# Altium schematic symbol library Schlib.SchLib: 43 symbols
Pins are listed as number, name and electrical type; pins without a type are passive.

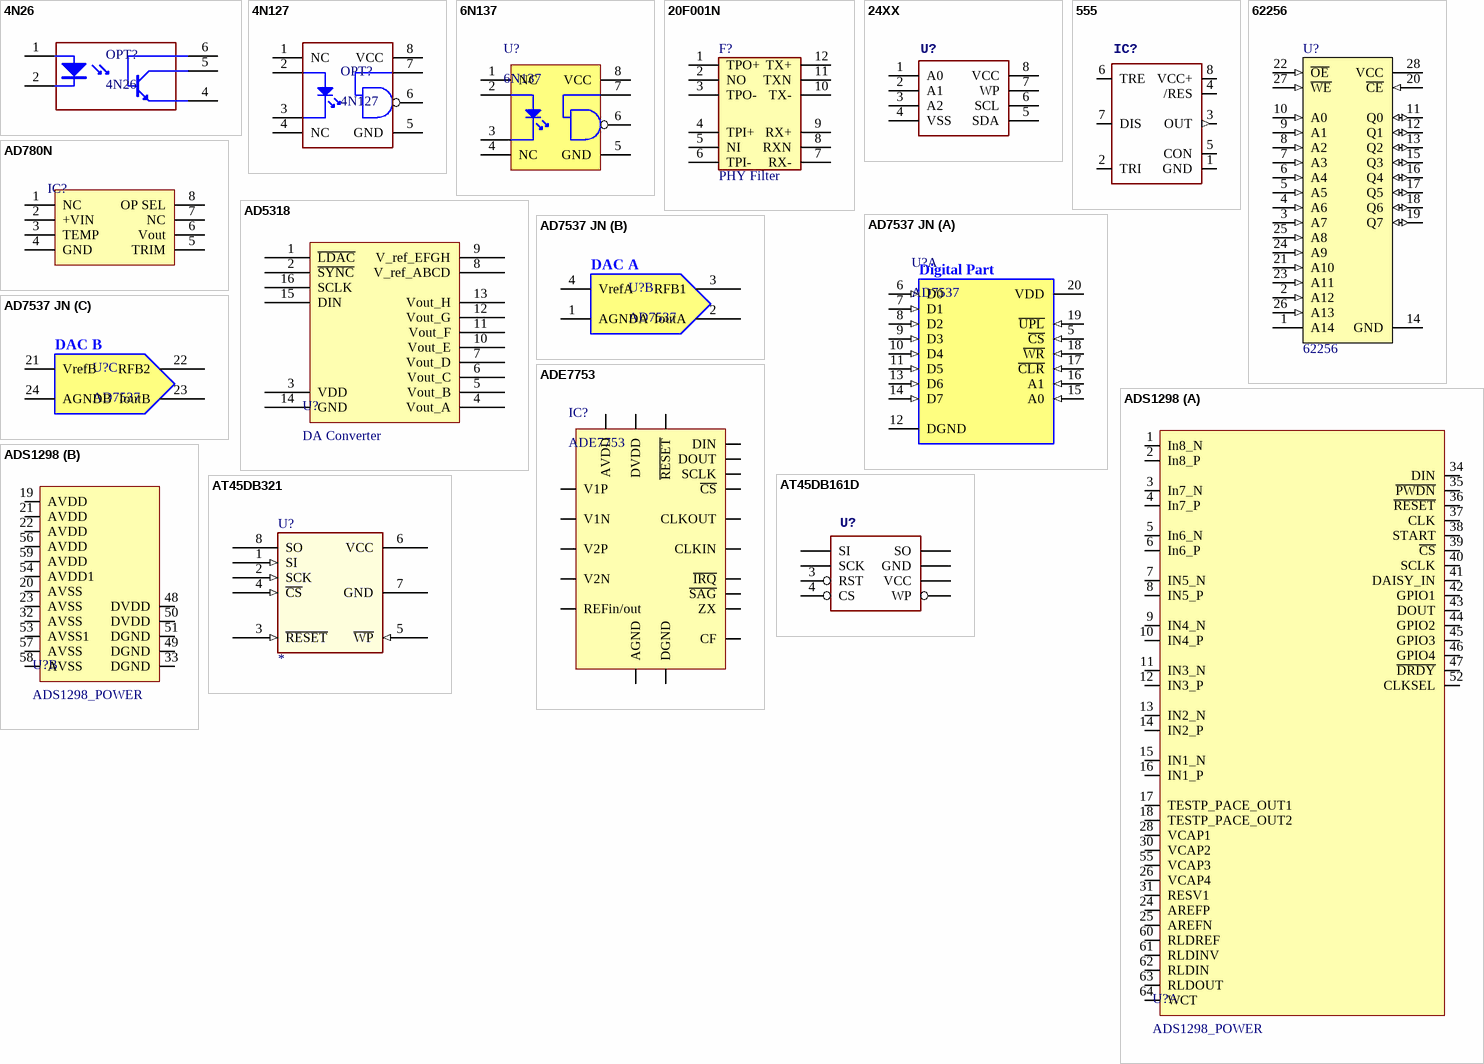
[diagram p0: symbols 4N26 to AT45DB321]

## 4N26
designator OPT?
footprint _DIP06-KIT
footprint _DIP06-S
pins: 1 A, 2 K, 4 E, 5 C, 6 B

## 4N127
designator OPT?
footprint _DIP08-KIT
footprint _DIP08-S
pins: 1 NC, 2 A, 3 K, 4 NC, 5 GND, 6 Vo, 7 Ve, 8 VCC

## 6N137
designator U?
HIGH SPEED-10 MBit/s  LOGIC GATE OPTOCOUPLERS; Designer: Saeid Jorablo; Company: ControTEK; Adding Date: 1387/01/08
footprint _DIP08-S
pins: 1 NC, 2 A, 3 K, 4 NC, 5 GND, 6 Vo, 7 Ve, 8 VCC

## 20F001N
designator F?, comment PHY Filter
footprint MY_20F001N
pins: 1 TPO+, 2 NO, 3 TPO-, 4 TPI+, 5 NI, 6 TPI-, 7 RX-, 8 RXN, 9 RX+, 10 TX-, 11 TXN, 12 TX+

## 24XX
designator U?  (value not drawn)
PROD_ID: NA-XXXXX
footprint _SO08-EIAJ
footprint _DIP08
footprint _DIP08-KIT
footprint _SO08
pins: 1 A0, 2 A1, 3 A2, 4 VSS (power), 5 SDA, 6 SCL, 7 WP, 8 VCC (power)

## 555
designator IC?  (value not drawn)
PROD_ID: NA-XXXXX
footprint _SO08
footprint _DIP08
footprint _DIP08-KIT
pins: 1 GND (power), 2 TRI, 3 OUT (out), 4 /RES, 5 CON, 6 TRE, 7 DIS, 8 VCC+ (power)

## 62256
designator U?
256 Kbit (32Kb X 8) Ram; Manufacturer: ST-Microelectronics; Class: Memory; SubClass: EPROM; Published: 24/08/2001; Publisher: Altium Hobart Technology Centre; Series: 256K
footprint My_dip28
pins: 1 A14 (power), 2 A12 (in), 3 A7 (in), 4 A6 (in), 5 A5 (in), 6 A4 (in), 7 A3 (in), 8 A2 (in), 9 A1 (in), 10 A0 (in), 11 Q0 (io), 12 Q1 (io), 13 Q2 (io), 14 GND (power), 15 Q3 (io), 16 Q4 (io), 17 Q5 (io), 18 Q6 (io), 19 Q7 (io), 20 ~{CE} (in), 21 A10 (in), 22 ~{OE} (in), 23 A11 (in), 24 A9 (in), 25 A8 (in), 26 A13 (in), 27 ~{WE} (in), 28 VCC (power)

## AD780N
designator IC?  (value not drawn)
2.5 V/3.0 V  High Precision Reference; Company: E.P.I.L; Design Date: 2011/11/02
footprint SOIC8-Narrow (SOIC, 8-Leads, Body 3.0x3.0mm (max), Pitch 1.27mm, IPC Medium Density)
pins: 1 NC, 2 +VIN, 3 TEMP, 4 GND, 5 TRIM, 6 Vout, 7 NC, 8 OP SEL

## AD5318
designator U?, comment DA Converter
footprint AD5318 (SPI Digital to Analog Converter)
pins: 1 ~{LDAC}, 2 ~{SYNC}, 3 VDD, 4 Vout_A, 5 Vout_B, 6 Vout_C, 7 Vout_D, 8 V_ref_ABCD, 9 V_ref_EFGH, 10 Vout_E, 11 Vout_F, 12 Vout_G, 13 Vout_H, 14 GND, 15 DIN, 16 SCLK
1 alternate drawing of the same symbol

## AD7537 JN
designator U?, comment AD7537
LC2 MOS (8+4) Loading Dual 12-Bit DAC; Manufacturer: Alanog Devices; Designer: Saeid Jorablo; Company: ControTec; Adding Date: 1387/12/22; ComponentLink1Description: Datasheet; ComponentLink1URL: http://www.analog.com/static/imported-files/data_sheets/AD7537.pdf; ComponentLink2URL: http://www.analog.com/en/digital-to-analog-converters/da-converters/ad7537/products/product.html; ComponentLink2Description: Reference
footprint DIP D24A
part A pins: 5 ~{CS} (in), 6 D0 (in), 7 D1 (in), 8 D2 (in), 9 D3 (in), 10 D4 (in), 11 D5 (in), 12 DGND (power), 13 D6 (in), 14 D7 (in), 15 A0 (in), 16 A1 (in), 17 ~{CLR} (in), 18 ~{WR} (in), 19 ~{UPL} (in), 20 VDD (power)
part B pins: 1 AGNDA (power), 2 IoutA, 3 RFB1, 4 VrefA
part C pins: 21 VrefB, 22 RFB2, 23 IoutB, 24 AGNDB (power)
part A text: Digital Part
part B text: DAC A
part C text: DAC B

## ADE7753
designator IC?
Single-Phase Multifunction Metering IC  with di/dt Sensor Interface; Designer: Eng. Saeid Jorablo; Company: E.P.I.L; DesignDate: 2011/10/31
footprint SSOP65P780X200-20M (SOP, 20-Leads, Body 7.5x5.6mm (max), Pitch 0.65mm, IPC Low Density)
pins: 1 ~{RESET}, 2 DVDD, 3 AVDD, 4 V1P, 5 V1N, 6 V2N, 7 V2P, 8 AGND, 9 REFin/out, 10 DGND, 11 CF, 12 ZX, 13 ~{SAG}, 14 ~{IRQ}, 15 CLKIN, 16 CLKOUT, 17 ~{CS}, 18 SCLK, 19 DOUT, 20 DIN

## ADS1298
designator U?, comment ADS1298_POWER
footprint ADS1298
part A pins: 1 In8_N, 2 In8_P, 3 In7_N, 4 In7_P, 5 In6_N, 6 In6_P, 7 IN5_N, 8 IN5_P, 9 IN4_N, 10 IN4_P, 11 IN3_N, 12 IN3_P, 13 IN2_N, 14 IN2_P, 15 IN1_N, 16 IN1_P, 17 TESTP_PACE_OUT1, 18 TESTP_PACE_OUT2, 24 AREFP, 25 AREFN, 26 VCAP4, 28 VCAP1, 30 VCAP2, 31 RESV1, 34 DIN, 35 ~{PWDN}, 36 ~{RESET}, 37 CLK, 38 START, 39 ~{CS}, 40 SCLK, 41 DAISY_IN, 42 GPIO1, 43 DOUT, 44 GPIO2, 45 GPIO3, 46 GPIO4, 47 ~{DRDY}, 52 CLKSEL, 55 VCAP3, 60 RLDREF, 61 RLDINV, 62 RLDIN, 63 RLDOUT, 64 WCT
part B pins: 19 AVDD, 20 AVSS, 21 AVDD, 22 AVDD, 23 AVSS, 32 AVSS, 33 DGND, 48 DVDD, 49 DGND, 50 DVDD, 51 DGND, 53 AVSS1, 54 AVDD1, 56 AVDD, 57 AVSS, 58 AVSS, 59 AVDD

## AT45DB161D
designator U?  (value not drawn)
footprint _SO08-EIAJ
pins: 1 SI, 2 SCK, 3 RST, 4 CS, 5 WP, 6 VCC, 7 GND, 8 SO

## AT45DB321
designator U?
Atmel Serial Data flash
footprint My_8S2_M
pins: 1 SI (in), 2 SCK (in), 3 ~{RESET} (in), 4 ~{CS} (in), 5 ~{WP} (in), 6 VCC (power), 7 GND (power), 8 SO (hiz)

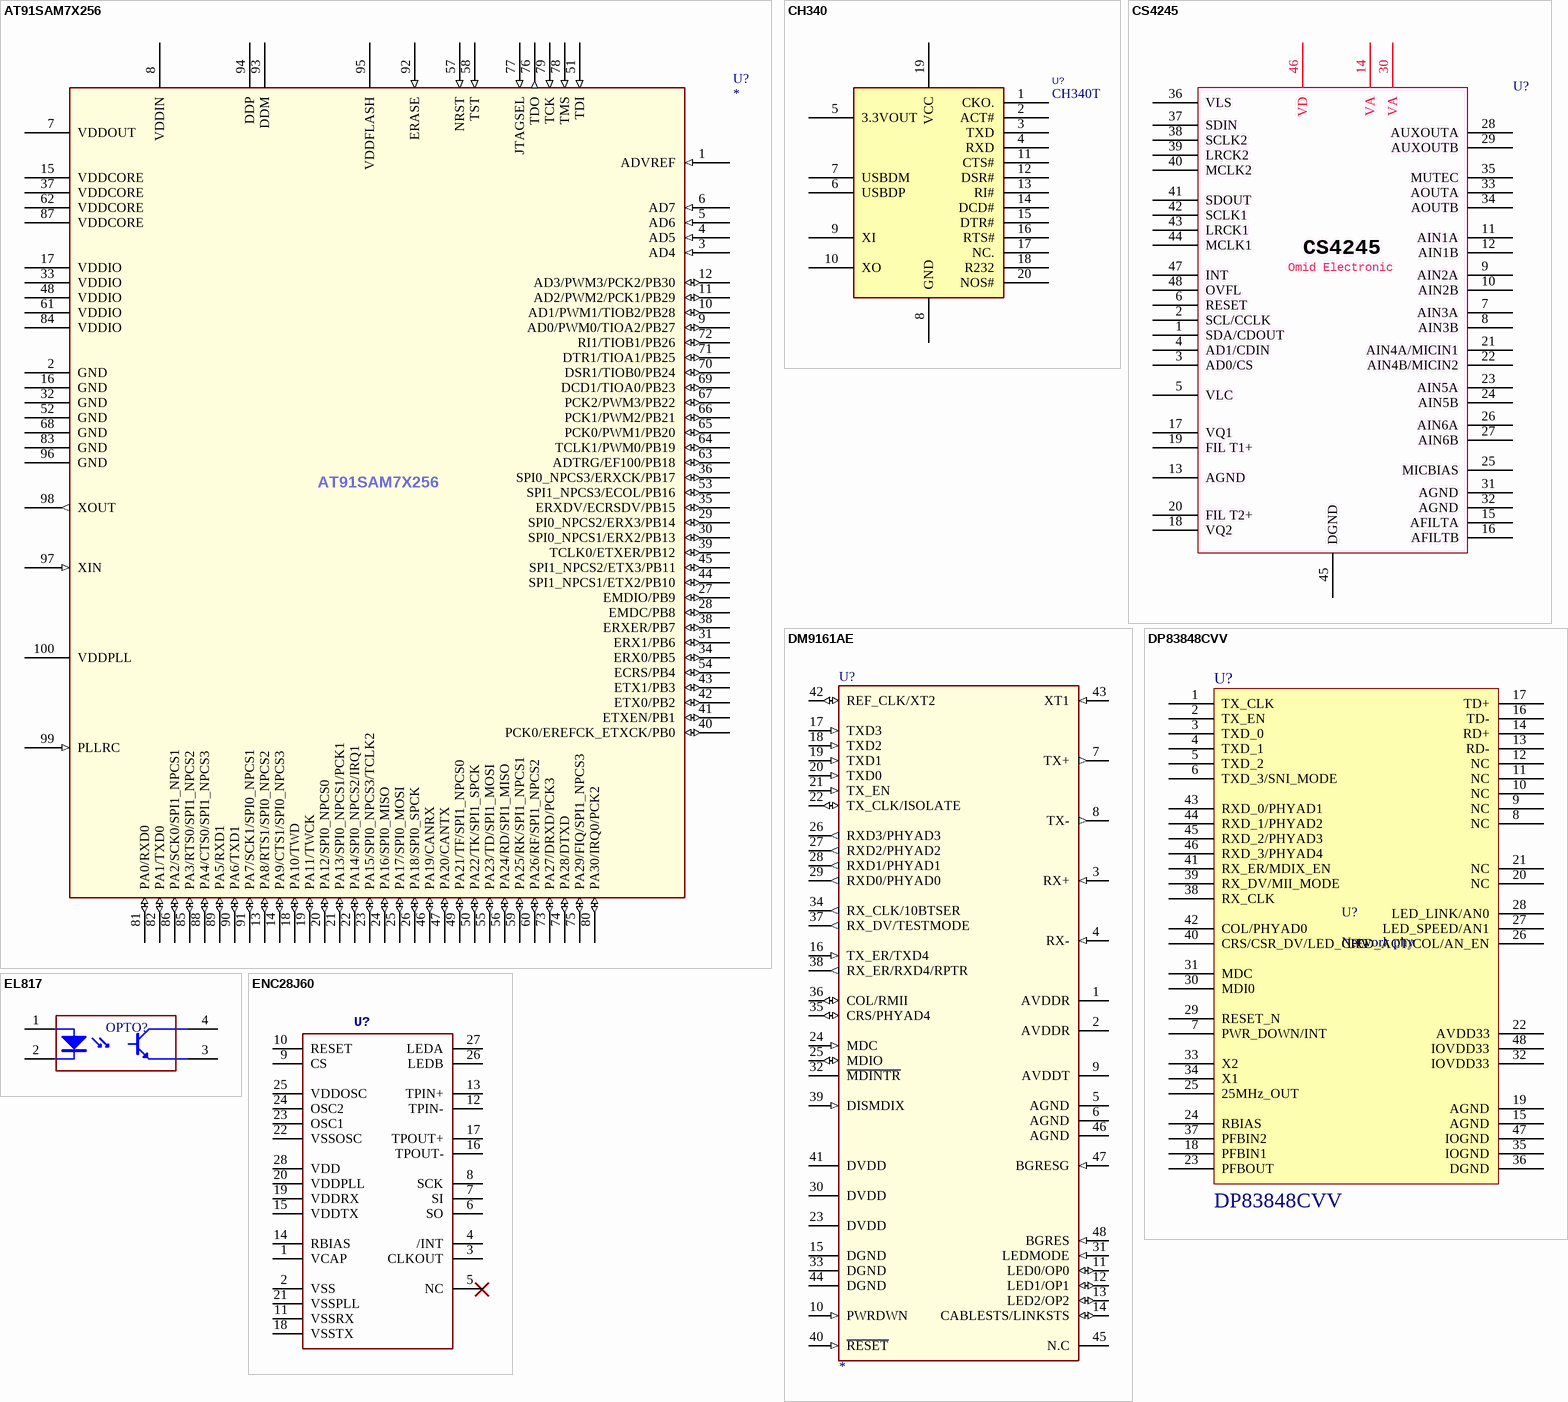
[diagram p1: symbols AT91SAM7X256 to ENC28J60]

## AT91SAM7X256
designator U?
ARM7 256K Bytes of In-System Programmable Flash Memory
footprint MY_TQFP 100 (TSQFP, 100-Leads, Body 16.0x16.0mm (max), Pitch 0.50mm, IPC Medium Density)
pins: 1 ADVREF (in), 2 GND (power), 3 AD4 (in), 4 AD5 (in), 5 AD6 (in), 6 AD7 (in), 7 VDDOUT (power), 8 VDDIN (power), 9 AD0/PWM0/TIOA2/PB27 (io), 10 AD1/PWM1/TIOB2/PB28 (io), 11 AD2/PWM2/PCK1/PB29 (io), 12 AD3/PWM3/PCK2/PB30 (io), 13 PA8/RTS1/SPI0_NPCS2 (io), 14 PA9/CTS1/SPI0_NPCS3 (io), 15 VDDCORE (power), 16 GND (power), 17 VDDIO (power), 18 PA10/TWD (io), 19 PA11/TWCK (io), 20 PA12/SPI0_NPCS0 (io), 21 PA13/SPI0_NPCS1/PCK1 (io), 22 PA14/SPI0_NPCS2/IRQ1 (io), 23 PA15/SPI0_NPCS3/TCLK2 (io), 24 PA16/SPI0_MISO (io), 25 PA17/SPI0_MOSI (io), 26 PA18/SPI0_SPCK (io), 27 EMDIO/PB9 (io), 28 EMDC/PB8 (io), 29 SPI0_NPCS2/ERX3/PB14 (io), 30 SPI0_NPCS1/ERX2/PB13 (io), 31 ERX1/PB6 (io), 32 GND (power), 33 VDDIO (power), 34 ERX0/PB5 (io), 35 ERXDV/ECRSDV/PB15 (io), 36 SPI0_NPCS3/ERXCK/PB17 (io), 37 VDDCORE (power), 38 ERXER/PB7 (io), 39 TCLK0/ETXER/PB12 (io), 40 PCK0/EREFCK_ETXCK/PB0 (io), 41 ETXEN/PB1 (io), 42 ETX0/PB2 (io), 43 ETX1/PB3 (io), 44 SPI1_NPCS1/ETX2/PB10 (io), 45 SPI1_NPCS2/ETX3/PB11 (io), 46 PA19/CANRX (io), 47 PA20/CANTX (io), 48 VDDIO (power), 49 PA21/TF/SPI1_NPCS0 (io), 50 PA22/TK/SPI1_SPCK (io), 51 TDI (in), 52 GND (power), 53 SPI1_NPCS3/ECOL/PB16 (io), 54 ECRS/PB4 (io), 55 PA23/TD/SPI1_MOSI (io), 56 PA24/RD/SPI1_MISO (io), 57 NRST (in), 58 TST (in), 59 PA25/RK/SPI1_NPCS1 (io), 60 PA26/RF/SPI1_NPCS2 (io), 61 VDDIO (power), 62 VDDCORE (power), 63 ADTRG/EF100/PB18 (io), 64 TCLK1/PWM0/PB19 (io), 65 PCK0/PWM1/PB20 (io), 66 PCK1/PWM2/PB21 (io), 67 PCK2/PWM3/PB22 (io), 68 GND (power), 69 DCD1/TIOA0/PB23 (io), 70 DSR1/TIOB0/PB24 (io), 71 DTR1/TIOA1/PB25 (io), 72 RI1/TIOB1/PB26 (io), 73 PA27/DRXD/PCK3 (io), 74 PA28/DTXD (io), 75 PA29/FIQ/SPI1_NPCS3 (io), 76 TDO (out), 77 JTAGSEL (in), 78 TMS (in), 79 TCK (in), 80 PA30/IRQ0/PCK2 (io), 81 PA0/RXD0 (io), 82 PA1/TXD0 (io), 83 GND (power), 84 VDDIO (power), 85 PA3/RTS0/SPI1_NPCS2 (io), 86 PA2/SCK0/SPI1_NPCS1 (io), 87 VDDCORE (power), 88 PA4/CTS0/SPI1_NPCS3 (io), 89 PA5/RXD1 (io), 90 PA6/TXD1 (io), 91 PA7/SCK1/SPI0_NPCS1 (io), 92 ERASE (in), 93 DDM, 94 DDP, 95 VDDFLASH (power), 96 GND (power), 97 XIN (in), 98 XOUT (out), 99 PLLRC (in), 100 VDDPLL (power)

## CH340
designator U?  value CH340T
TTL To USB Chip; MANUFACTURER: CHINA; Designer: Abbas Basereh; PART_NUMBER: CH340T; Data: 16-12-2016
footprint SOG65_20_700X530
pins: 1 CKO., 2 ACT#, 3 TXD, 4 RXD, 5 3.3VOUT, 6 USBDP, 7 USBDM, 8 GND, 9 XI, 10 XO, 11 CTS#, 12 DSR#, 13 RI#, 14 DCD#, 15 DTR#, 16 RTS#, 17 NC., 18 R232, 19 VCC, 20 NOS#

## CS4245
designator U?  (value not drawn)
footprint CS4245
pins: 1 SDA/CDOUT, 2 SCL/CCLK, 3 AD0/CS, 4 AD1/CDIN, 5 VLC, 6 RESET, 7 AIN3A, 8 AIN3B, 9 AIN2A, 10 AIN2B, 11 AIN1A, 12 AIN1B, 13 AGND, 14 VA, 15 AFILTA, 16 AFILTB, 17 VQ1, 18 VQ2, 19 FIL T1+, 20 FIL T2+, 21 AIN4A/MICIN1, 22 AIN4B/MICIN2, 23 AIN5A, 24 AIN5B, 25 MICBIAS, 26 AIN6A, 27 AIN6B, 28 AUXOUTA, 29 AUXOUTB, 30 VA, 31 AGND, 32 AGND, 33 AOUTA, 34 AOUTB, 35 MUTEC, 36 VLS, 37 SDIN, 38 SCLK2, 39 LRCK2, 40 MCLK2, 41 SDOUT, 42 SCLK1, 43 LRCK1, 44 MCLK1, 45 DGND, 46 VD, 47 INT, 48 OVFL
text: Omid Electronic

## DM9161AE
designator U?
Ethernet PHY
footprint MY_LQFP48 (TSQFP, 48-Leads, Body 9.0x9.0mm (max), Pitch 0.50mm, IPC Medium Density)
pins: 1 AVDDR (power), 2 AVDDR (power), 3 RX+ (in), 4 RX- (in), 5 AGND (power), 6 AGND (power), 7 TX+ (out), 8 TX- (out), 9 AVDDT (power), 10 PWRDWN (in), 11 LED0/OP0 (io), 12 LED1/OP1 (io), 13 LED2/OP2 (io), 14 CABLESTS/LINKSTS (io), 15 DGND (power), 16 TX_ER/TXD4 (in), 17 TXD3 (in), 18 TXD2 (in), 19 TXD1 (in), 20 TXD0 (in), 21 TX_EN (in), 22 TX_CLK/ISOLATE (io), 23 DVDD (power), 24 MDC (in), 25 MDIO (io), 26 RXD3/PHYAD3 (out), 27 RXD2/PHYAD2 (out), 28 RXD1/PHYAD1 (out), 29 RXD0/PHYAD0 (out), 30 DVDD (power), 31 LEDMODE (in), 32 ~{MDINTR} (hiz), 33 DGND (power), 34 RX_CLK/10BTSER (out), 35 CRS/PHYAD4 (io), 36 COL/RMII (io), 37 RX_DV/TESTMODE (out), 38 RX_ER/RXD4/RPTR (out), 39 DISMDIX (in), 40 ~{RESET} (in), 41 DVDD (power), 42 REF_CLK/XT2 (io), 43 XT1 (in), 44 DGND (power), 45 N.C, 46 AGND (power), 47 BGRESG (in), 48 BGRES (in)

## DP83848CVV
designator U?, comment Network phy
footprint DP83848 (network phy)
pins: 1 TX_CLK, 2 TX_EN, 3 TXD_0, 4 TXD_1, 5 TXD_2, 6 TXD_3/SNI_MODE, 7 PWR_DOWN/INT, 8 NC, 9 NC, 10 NC, 11 NC, 12 NC, 13 RD-, 14 RD+, 15 AGND, 16 TD-, 17 TD+, 18 PFBIN1, 19 AGND, 20 NC, 21 NC, 22 AVDD33, 23 PFBOUT, 24 RBIAS, 25 25MHz_OUT, 26 LED_ACT/COL/AN_EN, 27 LED_SPEED/AN1, 28 LED_LINK/AN0, 29 RESET_N, 30 MDI0, 31 MDC, 32 IOVDD33, 33 X2, 34 X1, 35 IOGND, 36 DGND, 37 PFBIN2, 38 RX_CLK, 39 RX_DV/MII_MODE, 40 CRS/CSR_DV/LED_CFG, 41 RX_ER/MDIX_EN, 42 COL/PHYAD0, 43 RXD_0/PHYAD1, 44 RXD_1/PHYAD2, 45 RXD_2/PHYAD3, 46 RXD_3/PHYAD4, 47 IOGND, 48 IOVDD33

## EL817
designator OPTO?
footprint _DIP04-KIT
footprint _DIP04-S
pins: 1 A, 2 K, 3, 4

## ENC28J60
designator U?  (value not drawn)
PROD_ID: IC-09541
footprint _SSOP28DB
pins: 1 VCAP, 2 VSS, 3 CLKOUT, 4 /INT, 5 NC, 6 SO, 7 SI, 8 SCK, 9 CS, 10 RESET, 11 VSSRX, 12 TPIN-, 13 TPIN+, 14 RBIAS, 15 VDDTX, 16 TPOUT-, 17 TPOUT+, 18 VSSTX, 19 VDDRX, 20 VDDPLL, 21 VSSPLL, 22 VSSOSC, 23 OSC1, 24 OSC2, 25 VDDOSC, 26 LEDB, 27 LEDA, 28 VDD

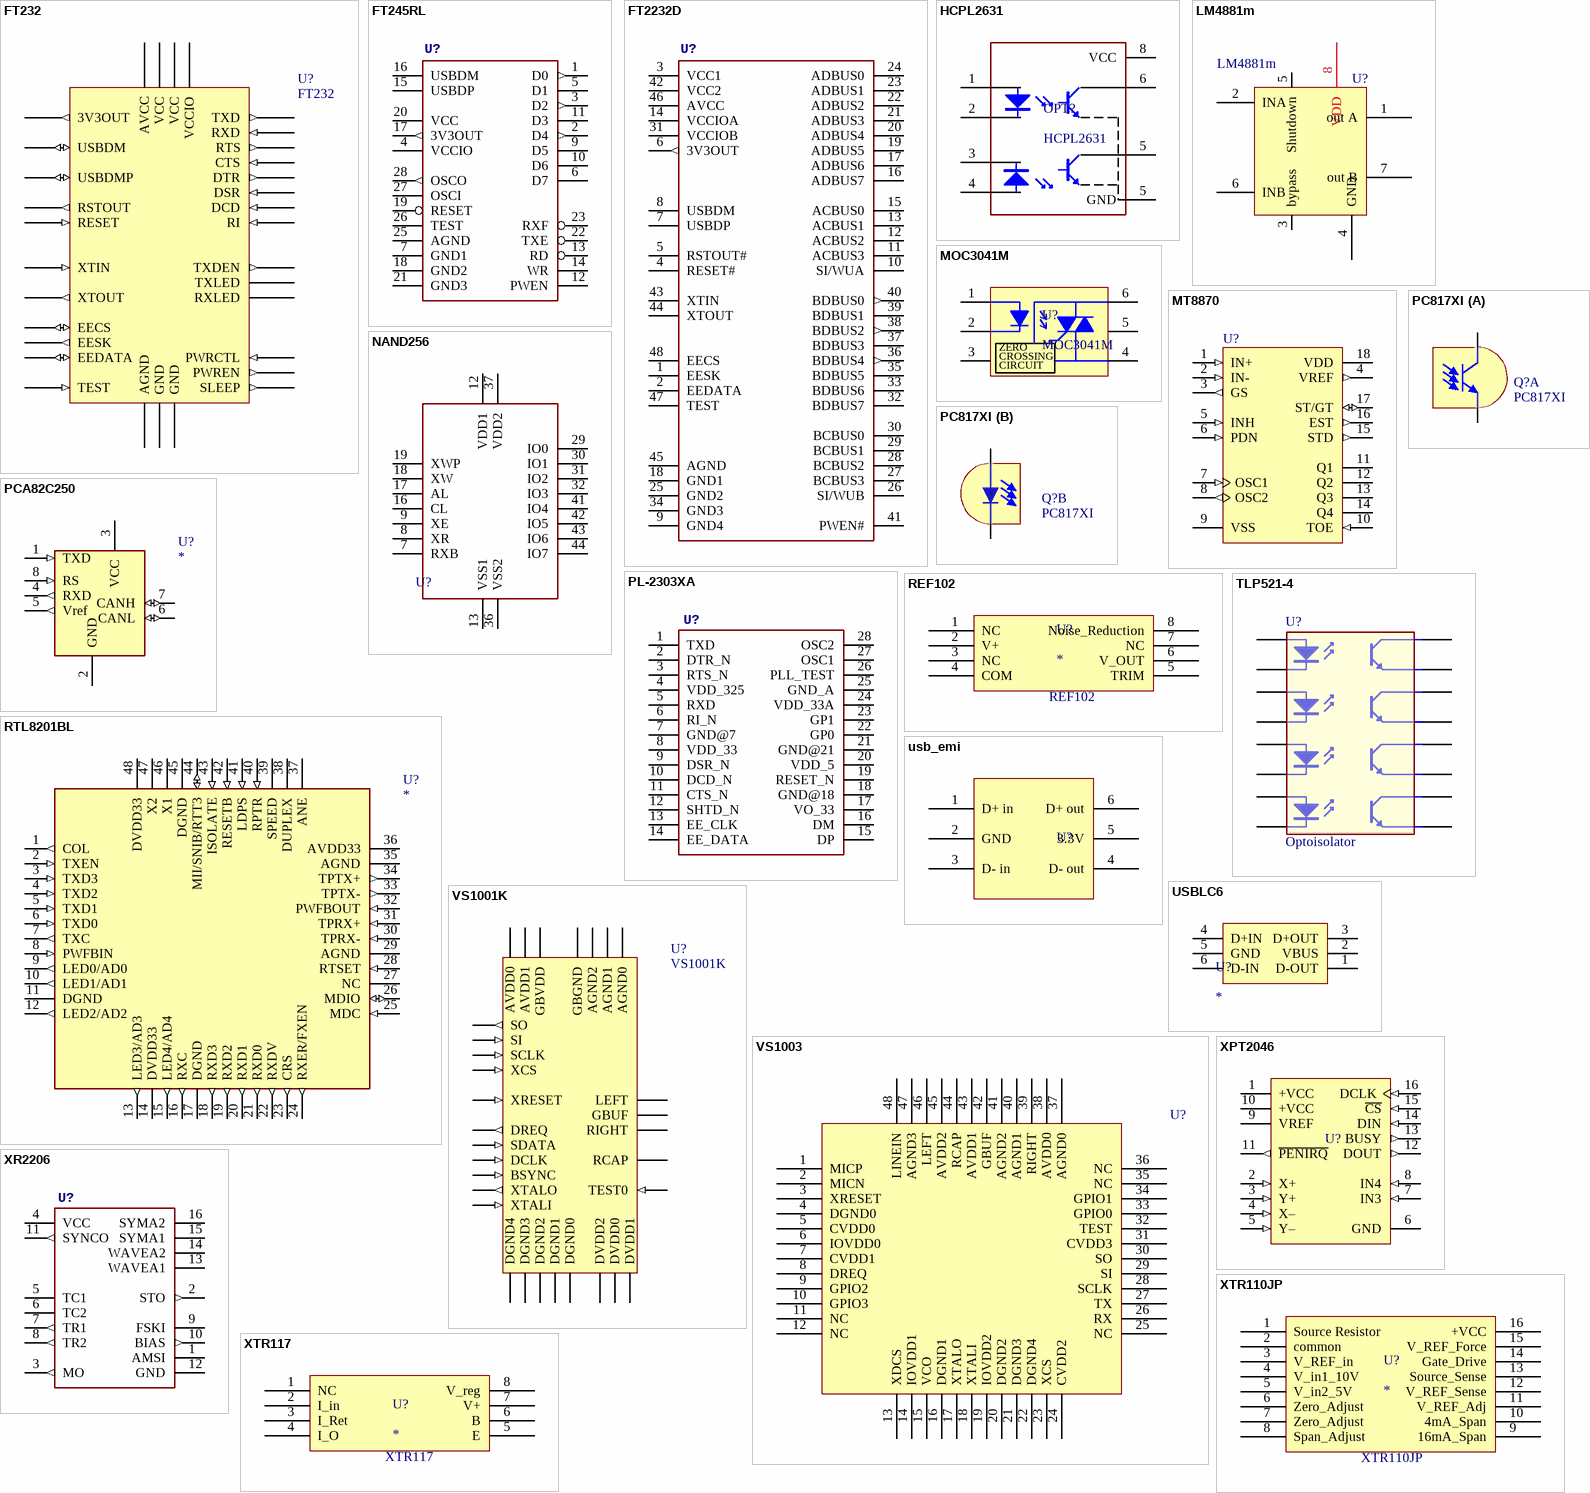
[diagram p2: symbols FT232 to XTR117]

## FT232
designator U?
USB to RS232 Convertor
footprint My_TQFP-32
pins: 1 EESK (out), 2 EEDATA (io), 3 VCC (power), 4 RESET (in), 5 RSTOUT (out), 6 3V3OUT (out), 7 USBDMP (io), 8 USBDM (io), 9 GND (power), 10 SLEEP (out), 11 RXLED (oc), 12 TXLED (oc), 13 VCCIO (power), 14 PWRCTL (in), 15 PWREN (out), 16 TXDEN (out), 17 GND (power), 18 RI (in), 19 DCD (in), 20 DSR (in), 21 DTR (out), 22 CTS (in), 23 RTS (out), 24 RXD (in), 25 TXD (out), 26 VCC (power), 27 XTIN (in), 28 XTOUT (out), 29 AGND (power), 30 AVCC (power), 31 TEST (in), 32 EECS (io)

## FT245RL
designator U?  (value not drawn)
PROD_ID: COM-00787
footprint _SSOP28DB
pins: 1 D0 (out), 2 D4 (out), 3 D2 (out), 4 VCCIO (power), 5 D1, 6 D7, 7 GND1 (power), 9 D5, 10 D6, 11 D3, 12 PWEN, 13 RD, 14 WR, 15 USBDP, 16 USBDM, 17 3V3OUT (out), 18 GND2 (power), 19 RESET, 20 VCC (power), 21 GND3 (power), 22 TXE, 23 RXF, 25 AGND (power), 26 TEST, 27 OSCI, 28 OSCO (out)

## FT2232D
designator U?  (value not drawn)
footprint _LQFP-48
pins: 1 EESK, 2 EEDATA, 3 VCC1 (power), 4 RESET#, 5 RSTOUT#, 6 3V3OUT (out), 7 USBDP, 8 USBDM, 9 GND4, 10 SI/WUA, 11 ACBUS3, 12 ACBUS2, 13 ACBUS1, 14 VCCIOA (power), 15 ACBUS0, 16 ADBUS7, 17 ADBUS6, 18 GND1 (power), 19 ADBUS5, 20 ADBUS4, 21 ADBUS3, 22 ADBUS2, 23 ADBUS1, 24 ADBUS0, 25 GND2 (power), 26 SI/WUB, 27 BCBUS3, 28 BCBUS2, 29 BCBUS1, 30 BCBUS0, 31 VCCIOB, 32 BDBUS7, 33 BDBUS6, 34 GND3 (power), 35 BDBUS5, 36 BDBUS4 (out), 37 BDBUS3, 38 BDBUS2 (out), 39 BDBUS1, 40 BDBUS0 (out), 41 PWEN#, 42 VCC2 (power), 43 XTIN, 44 XTOUT, 45 AGND (power), 46 AVCC, 47 TEST, 48 EECS

## HCPL2631
designator OPT?
footprint _DIP08-KIT
footprint _DIP08-S
pins: 1 A, 2 K, 3 K, 4 A, 5 OUT2, 5 GND, 6 OUT1, 8 VCC

## LM4881m
designator U?  (value not drawn)
footprint LM4881m
pins: 1 out A, 2 INA, 3 bypass, 4 GND, 5 Shutdown, 6 INB, 7 out B, 8 VDD

## MOC3041M
designator U?
Triac & SCR Output Optocouplers DIP-6 ZERO TRIAC; Manufacturer: Fairchild Semiconductor; Isolation Voltage: 5250 Vrms; Output Device: PhotoTriac; Output Type: AC; Forward Current: 60 mA; Forward Voltage: 1.25 V; Power Dissipation: 250 mW; Maximum Trigger Current: 15 mA; Number of Channels per Chip: 1 Channel; Off-state Output Voltage - VDRM: 400 V; Zero-Crossing Circuit: With Zero-Crossing Circuit; Zero-Crossing Voltage: 20 V; Supplier 1: Mouser; Manufacturer Part Number: MOC3041M; RoHS: RoHS Compliant; Category: Triac & SCR Output Optocouplers; Stock 1: 3450; Pricing 1: 1=0.672, 10=0.520, 100=0.336, 1000=0.269, 5000=0.226, 10000=0.218, 25000=0.210, 50000=0.206 (EUR); Package/Case: PDIP-6; Packaging: Bulk; Series: MOC3041M; Brand: Fairchild Semiconductor; Maximum Operating Temperature: + 85 C; Minimum Operating Temperature: - 40 C; Standard Pack Qty: 1000; RoHS - Mouser: Y; Minimum Order Quantity: 1; Reeling: False; ComponentLink1URL: http://www.mouser.com/ds/2/149/MOC3041M-195885.pdf; ComponentLink1Description: http://www.mouser.com/ds/2/149/MOC3041M-195885.pdf
footprint PDIP6-300-W (PDIP6-300 White)
pins: 1 (power), 2, 3, 4, 5, 6
text: ZERO; CROSSING; CIRCUIT

## MT8870
designator U?  (value not drawn)
3 Volt Integrated DTMF Receiver
footprint _DIP18
footprint _DIP18-KIT
footprint _SO18W
pins: 1 IN+ (in), 2 IN- (in), 3 GS (out), 4 VREF (out), 5 INH (in), 6 PDN (in), 7 OSC1 (in), 8 OSC2 (out), 9 VSS (power), 10 TOE (in), 11 Q1 (hiz), 12 Q2 (hiz), 13 Q3 (hiz), 14 Q4 (hiz), 15 STD (out), 16 EST (out), 17 ST/GT (io), 18 VDD (power)

## NAND256
designator U?  (value not drawn)
footprint _TSOP48 (Footprint not found)
pins: 7 RXB, 8 XR, 9 XE, 12 VDD1, 13 VSS1, 16 CL, 17 AL, 18 XW, 19 XWP, 29 IO0, 30 IO1, 31 IO2, 32 IO3, 36 VSS2, 37 VDD2, 41 IO4, 42 IO5, 43 IO6, 44 IO7

## PC817XI
designator Q?
DIP 4pin General Purpose  Photocoupler; Published: 2017-2-27; DatasheetVersion: 2017-2-27; PackageVersion: 2017-2-27; PackageReference: SMT Gullwing Lead-Form; Publisher: Abbas Basereh; PackageDescription: SOP, 4-Leads, Body 4/65x6/75mm, Pitch 2/54mm, IPC Medium Density designer:abbas basereh; ComponentLink1Description: Manufacturer Link; ComponentLink1URL: http://www.roboeq.ir/files/id/233/name/PC817.pdf/; ComponentLink2Description: DIP 4pin General Purpose
footprint SMT Gullwing Lead-Form (SOP, 4-Leads, Body 4/65x6/75mm, Pitch 2/54mm, IPC Medium Density designer:abbas basereh)
part A pins: 3 E, 4 C
part B pins: 1 A, 2 K

## PCA82C250
designator U?
CAN controller interface
footprint My_8S2_M
pins: 1 TXD (in), 2 GND (power), 3 VCC (power), 4 RXD (out), 5 Vref (out), 6 CANL (io), 7 CANH (io), 8 RS (in)

## PL-2303XA
designator U?
footprint _SSOP28DB
pins: 1 TXD, 2 DTR_N, 3 RTS_N, 4 VDD_325, 5 RXD, 6 RI_N, 7 GND@7, 8 VDD_33, 9 DSR_N, 10 DCD_N, 11 CTS_N, 12 SHTD_N, 13 EE_CLK, 14 EE_DATA, 15 DP, 16 DM, 17 VO_33, 18 GND@18, 19 RESET_N, 20 VDD_5, 21 GND@21, 22 GP0, 23 GP1, 24 VDD_33A, 25 GND_A, 26 PLL_TEST, 27 OSC1, 28 OSC2

## REF102
designator U?
footprint REF102 (Precision voltage reference IC)
footprint XH_2PIN
pins: 1 NC, 2 V+, 3 NC, 4 COM, 5 TRIM, 6 V_OUT, 7 NC, 8 Noise_Reduction

## RTL8201BL
designator U?
SINGLE PORT 10/100M  FAST ETHERNET PHYCEIVER
footprint MY_LQFP48 (TSQFP, 48-Leads, Body 9.0x9.0mm (max), Pitch 0.50mm, IPC Medium Density)
pins: 1 COL (out), 2 TXEN (in), 3 TXD3 (in), 4 TXD2 (in), 5 TXD1 (in), 6 TXD0 (in), 7 TXC (out), 8 PWFBIN (in), 9 LED0/AD0 (out), 10 LED1/AD1 (out), 11 DGND (power), 12 LED2/AD2 (out), 13 LED3/AD3 (out), 14 DVDD33 (power), 15 LED4/AD4 (out), 16 RXC (out), 17 DGND (power), 18 RXD3 (out), 19 RXD2 (out), 20 RXD1 (out), 21 RXD0 (out), 22 RXDV (out), 23 CRS (out), 24 RXER/FXEN (out), 25 MDC (in), 26 MDIO (io), 27 NC (power), 28 RTSET (in), 29 AGND (power), 30 TPRX- (in), 31 TPRX+ (in), 32 PWFBOUT (in), 33 TPTX- (out), 34 TPTX+ (out), 35 AGND (power), 36 AVDD33 (power), 37 ANE (power), 38 DUPLEX (power), 39 SPEED (power), 40 RPTR (in), 41 LDPS (in), 42 RESETB (in), 43 ISOLATE (in), 44 MII/SNIB/RTT3 (io), 45 DGND (power), 46 X1, 47 X2, 48 DVDD33 (power)

## TLP521-4
designator U?, comment Optoisolator
4 Optoisolator's
footprint My_DIP-16
pins: 1 A, 2 K, 3 A, 4 K, 5 A, 6 K, 7 A, 8 K, 9 E, 10 C, 11 E, 12 C, 13 E, 14 C, 15 E, 16 C

## usb_emi
designator U?
footprint _CDFP-G6 (DFP; 6 Leads; Body 3.7 x 3.6 mm (LxW max); Pitch 1.27 mm)
pins: 1 D+ in, 2 GND, 3 D- in, 4 D- out, 5 3.3V, 6 D+ out

## USBLC6
designator U?
footprint USBLC6
pins: 1 D-OUT, 2 VBUS, 3 D+OUT, 4 D+IN, 5 GND, 6 D-IN

## VS1001K
designator U?
Mp3 decoder
footprint MY_LQFP48 (TSQFP, 48-Leads, Body 9.0x9.0mm (max), Pitch 0.50mm, IPC Medium Density)
pins: 3 XRESET (in), 4 DGND0 (power), 6 DVDD0 (power), 8 DREQ (out), 9 DCLK (in), 10 SDATA (in), 13 BSYNC (in), 14 DVDD1 (power), 16 DGND1 (power), 17 XTALO (out), 18 XTALI (in), 19 DVDD2 (power), 20 DGND2 (power), 21 DGND3 (power), 22 DGND4 (power), 23 XCS (in), 28 SCLK (in), 29 SI (in), 30 SO (out), 32 TEST0 (in), 37 AGND0 (power), 38 AVDD0 (power), 39 RIGHT, 40 AGND1 (power), 41 GBGND (power), 42 GBUF, 43 GBVDD (power), 44 RCAP, 45 AVDD1 (power), 46 LEFT, 47 AGND2 (power)

## VS1003
designator U?
footprint _LQFP48 (QFP, 48-Leads, Body 7x7mm, Pitch 0.5mm, IPC High Density)
pins: 1 MICP, 2 MICN, 3 XRESET, 4 DGND0, 5 CVDD0, 6 IOVDD0, 7 CVDD1, 8 DREQ, 9 GPIO2, 10 GPIO3, 11 NC, 12 NC, 13 XDCS, 14 IOVDD1, 15 VCO, 16 DGND1, 17 XTALO, 18 XTALI, 19 IOVDD2, 20 DGND2, 21 DGND3, 22 DGND4, 23 XCS, 24 CVDD2, 25 NC, 26 RX, 27 TX, 28 SCLK, 29 SI, 30 SO, 31 CVDD3, 32 TEST, 33 GPIO0, 34 GPIO1, 35 NC, 36 NC, 37 AGND0, 38 AVDD0, 39 RIGHT, 40 AGND1, 41 AGND2, 42 GBUF, 43 AVDD1, 44 RCAP, 45 AVDD2, 46 LEFT, 47 AGND3, 48 LINEIN

## XPT2046
designator U?
footprint _SOP16 (SSOP; 16 Leads; Body Width 3.9 mm; Pitch 0.635 mm)
pins: 1 +VCC (power), 2 X+ (in), 3 Y+ (in), 4 X– (in), 5 Y– (in), 6 GND (power), 7 IN3 (in), 8 IN4 (in), 9 VREF (power), 10 +VCC (power), 11 ~{PENIRQ} (out), 12 DOUT (out), 13 BUSY (out), 14 DIN (in), 15 ~{CS} (in), 16 DCLK (in)

## XR2206
designator U?  (value not drawn)
footprint _DIP16-KIT
footprint _DIP16
pins: 1 AMSI, 2 STO (out), 3 MO (out), 4 VCC (power), 5 TC1, 6 TC2, 7 TR1 (out), 8 TR2 (out), 9 FSKI, 10 BIAS (out), 11 SYNCO (out), 12 GND (power), 13 WAVEA1, 14 WAVEA2, 15 SYMA1, 16 SYMA2

## XTR110JP
designator U?
footprint XTR110JP (Voltage to current converter)
pins: 1 Source Resistor, 2 common, 3 V_REF_in, 4 V_in1_10V, 5 V_in2_5V, 6 Zero_Adjust, 7 Zero_Adjust, 8 Span_Adjust, 9 16mA_Span, 10 4mA_Span, 11 V_REF_Adj, 12 V_REF_Sense, 13 Source_Sense, 14 Gate_Drive, 15 V_REF_Force, 16 +VCC

## XTR117
designator U?
footprint XTR117 (4-20 mA Transmitter)
pins: 1 NC, 2 I_in, 3 I_Ret, 4 I_O, 5 E, 6 B, 7 V+, 8 V_reg